# Altium schematic symbol library schlib.SchLib: 4 symbols
Pins are listed as number, name and electrical type; pins without a type are passive.

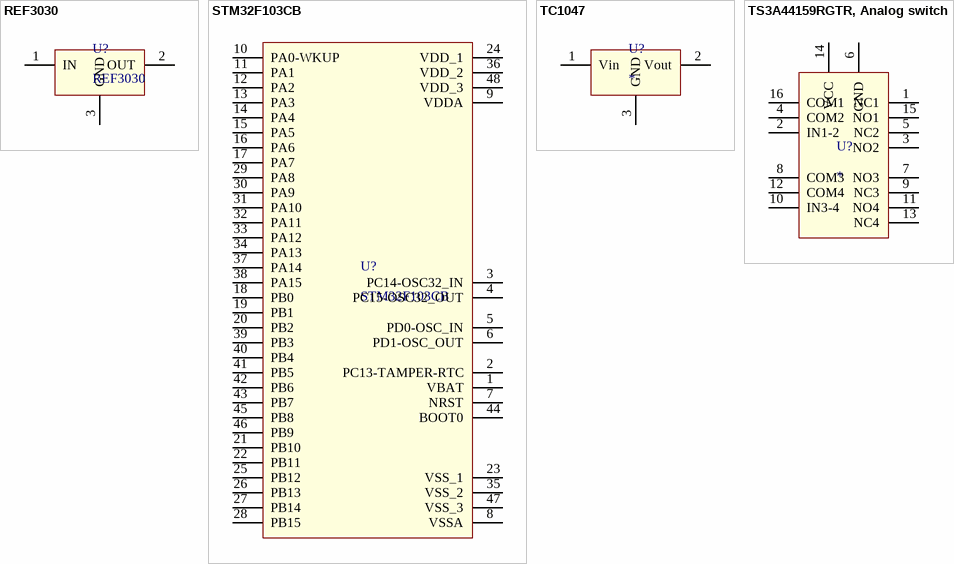
[diagram p0: symbols REF3030 to TS3A44159RGTR, Analog switch]

## REF3030
designator U?
footprint REF3030 (SOT23, 3-Leads, Body 2,92x2,45mm, Pitch 0,95mm, IPC Medium Density)
pins: 1 IN, 2 OUT, 3 GND

## STM32F103CB
designator U?
footprint STM32F103CBT6 (CQFP, 48-Leads, Body 9,00x9,00mm, Pitch 0,50mm, IPC Medium Density)
pins: 1 VBAT, 2 PC13-TAMPER-RTC, 3 PC14-OSC32_IN, 4 PC15-OSC32_OUT, 5 PD0-OSC_IN, 6 PD1-OSC_OUT, 7 NRST, 8 VSSA, 9 VDDA, 10 PA0-WKUP, 11 PA1, 12 PA2, 13 PA3, 14 PA4, 15 PA5, 16 PA6, 17 PA7, 18 PB0, 19 PB1, 20 PB2, 21 PB10, 22 PB11, 23 VSS_1, 24 VDD_1, 25 PB12, 26 PB13, 27 PB14, 28 PB15, 29 PA8, 30 PA9, 31 PA10, 32 PA11, 33 PA12, 34 PA13, 35 VSS_2, 36 VDD_2, 37 PA14, 38 PA15, 39 PB3, 40 PB4, 41 PB5, 42 PB6, 43 PB7, 44 BOOT0, 45 PB8, 46 PB9, 47 VSS_3, 48 VDD_3

## TC1047
designator U?
footprint TC1047 (SOT23, 3-Leads, Body 2,92x2,37mm, Pitch 0,95mm, IPC Medium Density)
pins: 1 Vin, 2 Vout, 3 GND

## TS3A44159RGTR, Analog switch
designator U?
footprint TS3A44159RGTR (QFN, 16-Leads, Body 3,00x3,00mm, Pitch 0,50mm, Thermal Pad 1,60x1,60mm, IPC Medium Density)
pins: 1 NC1, 2 IN1-2, 3 NO2, 4 COM2, 5 NC2, 6 GND, 7 NO3, 8 COM3, 9 NC3, 10 IN3-4, 11 NO4, 12 COM4, 13 NC4, 14 VCC, 15 NO1, 16 COM1